# Altium integrated library PCB RADAR.IntLib: 15 symbols
Pins are listed as number, name and electrical type; pins without a type are passive.

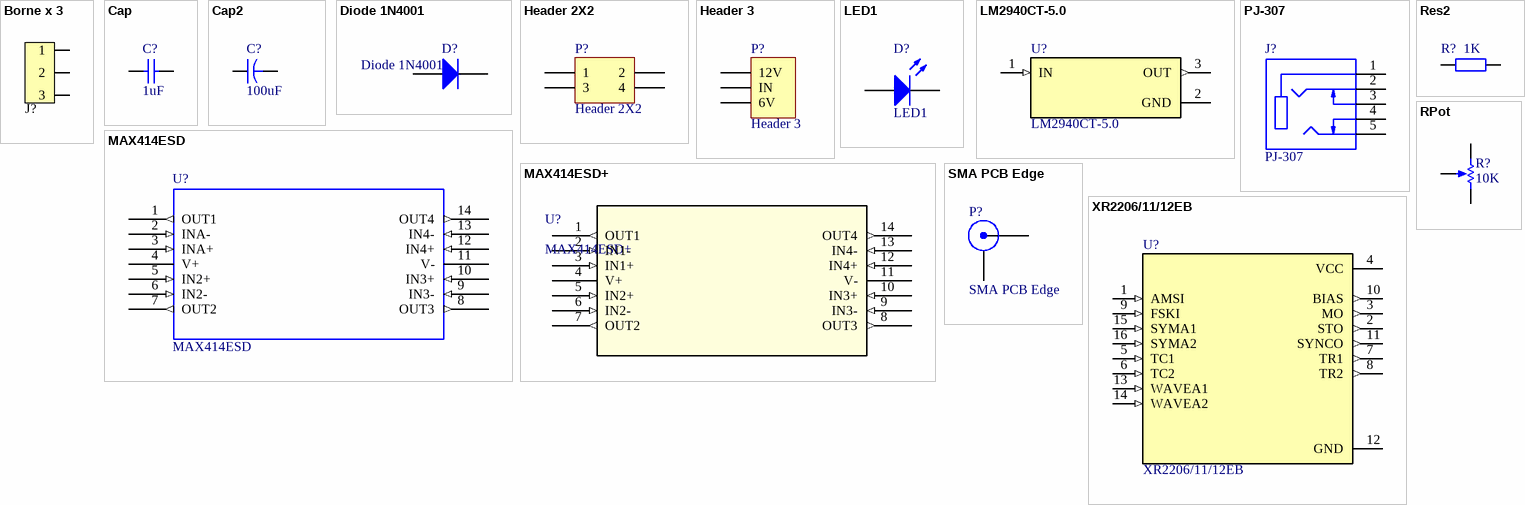
[diagram p0: symbols Borne x 3 to XR2206/11/12EB]

## Borne x 3
designator J?  (value not drawn)
Triple borne para circuito impreso
footprint BORNE-3x0.2 (Triple borne para circuito impreso a tornillo, Pitch: 200mil (5.08mm), Largo cuerpo: 327mil (8.3mm))
pins: 1, 2, 3

## Cap
designator C?  value 1uF  (hidden comment: Cap)
Capacitor; Published: 8-Jun-2000; LatestRevisionDate: 17-Jul-2002; LatestRevisionNote: Re-released for DXP Platform.; PackageReference: RAD-0.2; Publisher: Altium Limited; PackageDescription: Radial Cap, Thru-Hole; 2 Leads; 0.3 in Pin Spacing
simulation model CAP (Capacitor)
signal-integrity model Cap
footprint RAD-0.2 (Componente de 2 pines radiales, Pitch: 200mil (5.08mm))
pins: 1, 2

## Cap2
designator C?  value 100uF  (hidden comment: Cap2)
Capacitor; Published: 23-Sep-2002; PackageReference: CAPPR3.5-8x11.5; Publisher: Altium Limited; PackageDescription: Capacitor; 2 Leads
simulation model CAP (Capacitor)
signal-integrity model Cap
footprint CAPPR3.5-8x11.5 (Capacitor, Electrolytic, Radial; Body 8 x 11.5 mm (Dia.xH typ); Pin Spacing 3.5 mm (typ)); pin to pad 1>2 2>1
pins: 1 +, 2 -

## Diode 1N4001
designator D?
1 Amp General Purpose Rectifier; Published: 8-Jun-2000; LatestRevisionDate: 17-Jul-2002; LatestRevisionNote: Re-released for DXP Platform.; DatasheetVersion: 1998; PackageVersion: Aug-1999; PackageReference: DO-41; Publisher: Altium Limited; PackageDescription: Diode, Axial; Body 5.2 x 2.7 mm (LxDia. max), Lead Dia. 0.86 mm (max); Code_JEDEC: DO-204-AL; ComponentLink1Description: Manufacturer Link; ComponentLink1URL: http://www.fairchildsemi.com/; ComponentLink2Description: Datasheet; ComponentLink2URL: http://www.fairchildsemi.com/ds/1N%2F1N4001.pdf
footprint DO-41 (Diode, Axial; Body 5.2 x 2.7 mm (LxDia. max), Lead Dia. 0.86 mm (max))
pins: 1 A, 2 K

## Header 2X2
designator P?
Header, 2-Pin, Dual row; LatestRevisionDate: 17-Jul-2002; LatestRevisionNote: Re-released for DXP Platform.; Publisher: Altium Limited
footprint HDR2X2 (Connector; Header; 2x2 Position)
signal-integrity model Connector
pins: 1, 2, 3, 4

## Header 3
designator P?
Header, 3-Pin; LatestRevisionDate: 17-Jul-2002; LatestRevisionNote: Re-released for DXP Platform.; Publisher: Altium Limited
footprint HDR1X3 (Connector; Header; 3 Position)
signal-integrity model Connector
pins: 1 12V, 2 IN, 3 6V

## LED1
designator D?
Typical RED GaAs LED; Published: 8-Jun-2000; LatestRevisionDate: 08-Jul-2005; LatestRevisionNote: Mech Layer 1 removed.; PackageReference: LED-1; Publisher: Altium Limited; PackageDescription: LED; 2 Leads
footprint LED
pins: 1 A, 2 K

## LM2940CT-5.0
designator U?
1-A, 26-V, high-PSRR, low-dropout voltage regulator 3-TO-220 0 to 125; MF: Texas Instruments; MP: LM2940CT-5.0; Value: *; SnapEDA_Link: https://www.snapeda.com/parts/LM2940CT-5.0/Texas%20Instruments/view-part/213981/?ref=snap; Mouser-Purchase-URL: https://snapeda.com/shop?store=Mouser&id=213981; Price: None; DigiKey-Purchase-URL: https://snapeda.com/shop?store=DigiKey&id=213981; Package: TO-220-3 Texas Instruments; Availability: Warning; BuyPart: https://www.snapeda.com/parts/LM2940CT-5.0/Texas%20Instruments/view-part/213981/?ref=eda
footprint TO254P1054X470X1955-3
pins: 1 IN (in), 2 GND (power), 3 OUT (out)

## MAX414ESD
designator U?
Package: None; Price: None; Value: *; MP: MAX414ESD; Availability: Unavailable
footprint NSO14_L (SOIC, 14-Leads, Body 8.7x3.9mm, Pitch 1.27mm, IPC High Density)
pins: 1 OUT1 (out), 2 INA- (in), 3 INA+ (in), 4 V+ (power), 5 IN2+ (in), 6 IN2- (in), 7 OUT2 (out), 8 OUT3 (out), 9 IN3- (in), 10 IN3+ (in), 11 V- (power), 12 IN4+ (in), 13 IN4- (in), 14 OUT4 (out)

## MAX414ESD+
designator U?
No Description Available; Mfr_Name: Maxim Integrated Products; Copyright: Copyright (C) 2022 Ultra Librarian. All rights reserved.; Manufacturer_Part_Number: MAX414ESD+; RefDes: RefDes; Type: DEV
footprint 21-0041B_14_MXM
footprint 21-0041B_14_MXM-L
footprint 21-0041B_14_MXM-M
pins: 1 OUT1 (out), 2 IN1- (in), 3 IN1+ (in), 4 V+ (power), 5 IN2+ (in), 6 IN2- (in), 7 OUT2 (out), 8 OUT3 (out), 9 IN3- (in), 10 IN3+ (in), 11 V- (power), 12 IN4+ (in), 13 IN4- (in), 14 OUT4 (out)

## PJ-307
designator J?
3.5 mm, Stereo, Right Angle, Through Hole, Audio Jack Connector; MP: SJ1-3535N; MF: CUI Devices; CUI_purchase_URL: https://www.cuidevices.com/product/interconnect/connectors/audio-connectors/jacks/sj1-353xn-series?utm_source=snapeda.com&utm_medium=referral&utm_campaign=snapedaBOM; Value: *; SnapEDA_Link: https://www.snapeda.com/parts/SJ1-3535N/CUI%20Devices/view-part/533084/?ref=snap; Availability: Unavailable; Package: None; Price: None
footprint 3.5mm Jack (stereo jack 3.5mm)
pins: 1, 2, 3, 4, 5

## Res2
designator R?  value 1K  (hidden comment: Res2)
Resistor; Published: 8-Jun-2000; LatestRevisionDate: 17-Jul-2002; LatestRevisionNote: Re-released for DXP Platform.; PackageReference: AXIAL-0.4; Publisher: Altium Limited; PackageDescription: Axial Device, Thru-Hole; 2 Leads; 0.4 in Pin Spacing
footprint AXIAL-0.4 (Axial Device, Thru-Hole; 2 Leads; 0.4 in Pin Spacing)
simulation model RESISTOR (Resistor)
signal-integrity model Res
pins: 1, 2

## RPot
designator R?  value 10K  (hidden comment: RPot)
Potentiometer; Sim Note: Enter the Resistance value and the set point into parameter fields.; Set Position: 0.5; Published: 8-Jun-2000; LatestRevisionDate: 17-Jul-2002; LatestRevisionNote: Re-released for DXP Platform.; PackageReference: VR5; Publisher: Altium Limited; PackageDescription: Variable Resistor, Thru-Hole; 3 Leads
simulation model POT (Potentiometer)
footprint TRIMMER-V (Ajuste vertical, Largo: 400mil (10.16mm), Ancho: 200mil (5.08mm))
footprint POTE (potenciómetro)
pins: 1 TOP, 2 BOT, 3 TAP
1 alternate drawing of the same symbol

## SMA PCB Edge
designator P?
SMA conector- edge mounting -for PCB.
footprint SMA PCB 0.8mm
footprint SMA PCB 1.6mm
pins: 1 X, 2 Y

## XR2206/11/12EB
designator U?
XR2206, XR2211, XR2212 Multi-Purpose Timing Evaluation Board; MF: MaxLinear, Inc.; SnapEDA_Link: https://www.snapeda.com/parts/XR2206/11/12EB/MaxLinear%2C%20Inc./view-part/230277/?ref=snap; Package: TSSOP-20 Exar; Digi-Key_Purchase_URL: https://www.digikey.com/product-detail/en/maxlinear-inc/XR2206-11-12EB/1016-1428-ND/2636661?utm_source=snapeda&utm_medium=aggregator&utm_campaign=symbol; Value: *; MP: XR2206/11/12EB; Digi-Key_Part_Number: 1016-1428-ND
footprint DIP-16 (DIP; 16 Leads; Row Spacing 7.62 mm; Pitch 2.54 mm)
pins: 1 AMSI (in), 2 STO (out), 3 MO (out), 4 VCC (power), 5 TC1 (in), 6 TC2 (in), 7 TR1 (out), 8 TR2 (out), 9 FSKI (in), 10 BIAS (out), 11 SYNCO (out), 12 GND (power), 13 WAVEA1 (in), 14 WAVEA2 (in), 15 SYMA1 (in), 16 SYMA2 (in)